# Altium footprint library ML414H_IV01E.PcbLib: 1 footprints
Each footprint in its own frame and in the unit in brackets; x right, y up, seen from the top. Pads: shape width x height; smd on the part's side, far side on the other; paste and mask are expansions set on the pad; w line width, h text height; cw(c..) or ccw(c..) is an arc to the next point about the centre after c.
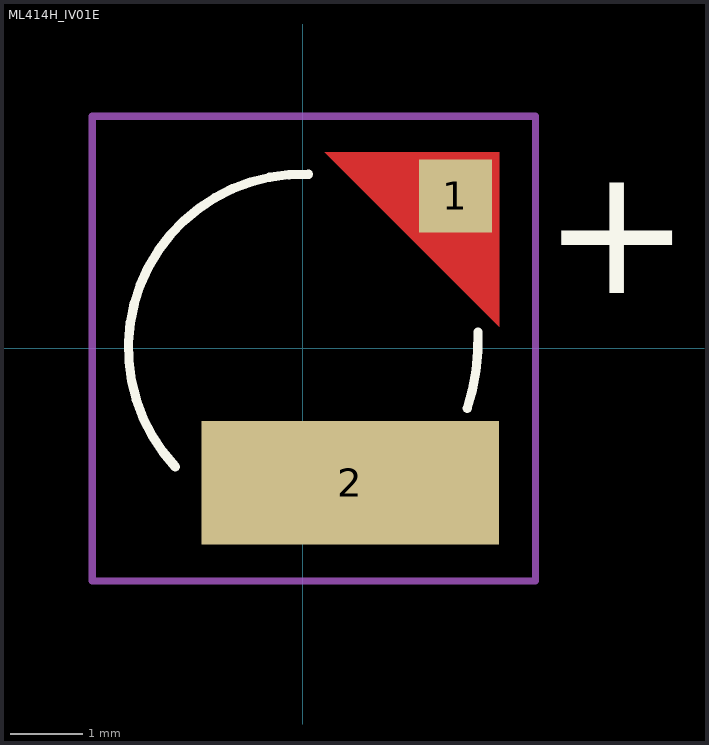
[diagram p0: the footprint, top view; thin cyan lines are the x and y axes]

## ML414H_IV01E [mm]
pads (2):
  rect 1x1 smd paste-1 mask+0: 1(2.1,2.1)
  rect 4.1x1.7 smd: 2(0.65,-1.85)
Top Layer:
  region: 2.7,0.3 0.3,2.7 2.7,2.7
Top Overlay:
  lines w0.127: -1.76,-1.629 cw(c-0.008,0.005) 0.075,2.4 ; 2.263,-0.822 ccw(c-0.634,0.119) 2.41,0.225
  text "+" at 3.305,0.763 h1.78
Top Paste:
  region: 2.7,0.3 0.3,2.7 2.7,2.7
Top Solder:
  region: 2.8,0 0,2.8 2.8,2.8
Top Courtyard:
  lines w0.1: -2.903,-3.203 -2.903,3.197 3.203,3.197 3.203,-3.203 -1.402,-3.203 -2.903,-3.203
3D body "step_temp.STEP": height 1.77, standoff 0, extent -2.4,-2.4 2.4,2.4